# Altium footprint library Pcb_LM2596F.PcbLib: 1 footprints
Each footprint in its own frame and in the unit in brackets; x right, y up, seen from the top. Pads: shape width x height; smd on the part's side, far side on the other; paste and mask are expansions set on the pad; w line width, h text height; cw(c..) or ccw(c..) is an arc to the next point about the centre after c.
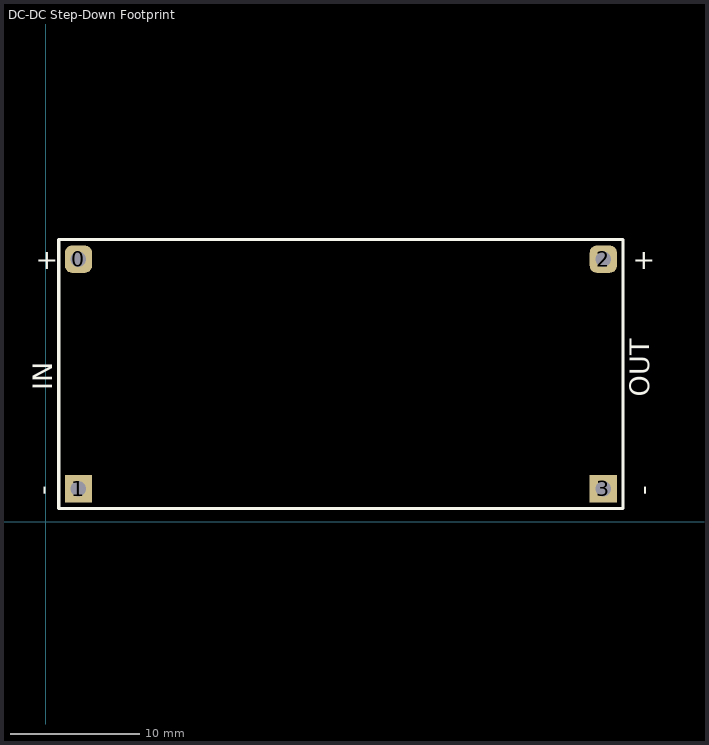
[diagram p0: the footprint, top view; thin cyan lines are the x and y axes]

## DC-DC Step-Down Footprint [mm]
pads (4):
  rrect50% 2.1x2.1 hole 1.2: 0(2.54,20.32) 2(43.18,20.32)
  rect 2.1x2.1 hole 1.2: 1(2.54,2.54) 3(43.18,2.54)
Top Overlay:
  lines w0.254: 1.016,1.016 44.704,1.016 44.704,21.844 1.016,21.844 1.016,1.016
  text "+" at -0.762,19.558 h1.52
  text "-" at 0.508,2.032 h1.52
  text "-" at 46.99,2.032 h1.52
  text "+" at 45.466,19.558 h1.52
  text "IN" at 0.508,10.16 h1.52
  text "OUT" at 46.736,9.652 h1.52